# EAGLE library part AXP209 (library X-Powers)
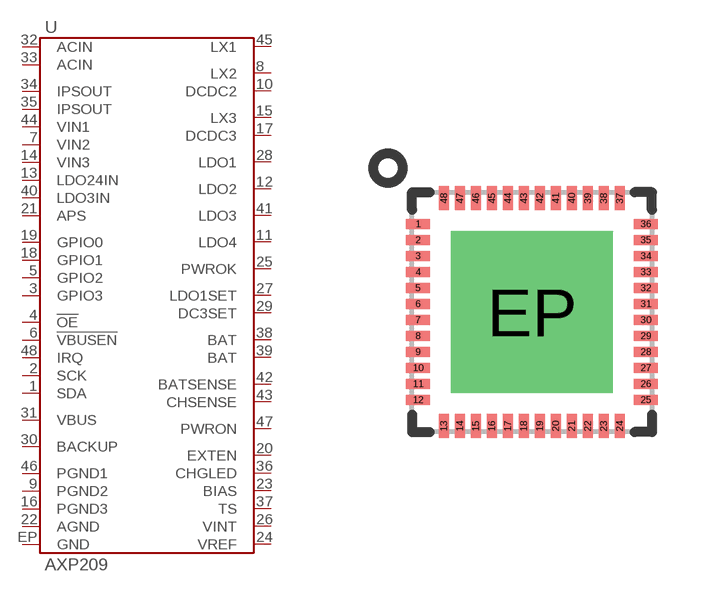
[diagram p0: symbol with the pads of QFN-48; footprint QFN-48]

Designator prefix U

## AXP209  [QFN-48]
1  SDA
2  SCK
3  GPIO3
4  !OE
5  GPIO2
6  !VBUSEN
7  VIN2
8  LX2
9  PGND2
10  DCDC2
11  LDO4
12  LDO2
13  LDO24IN
14  VIN3
15  LX3
16  PGND3
17  DCDC3
18  GPIO1
19  GPIO0
20  EXTEN
21  APS
22  AGND
23  BIAS
24  VREF
25  PWROK
26  VINT
27  LDO1SET
28  LDO1
29  DC3SET
30  BACKUP
31  VBUS
32  ACIN
33  ACIN
34  IPSOUT
35  IPSOUT
36  CHGLED
37  TS
38  BAT
39  BAT
40  LDO3IN
41  LDO3
42  BATSENSE
43  CHSENSE
44  VIN1
45  LX1
46  PGND1
47  PWRON
48  IRQ
EP  GND

## Footprint QFN-48 (pad centres in mm)
smd 0.6 x 0.248: 1 -2.85,2.2; 2 -2.85,1.8; 3 -2.85,1.4; 4 -2.85,1; 5 -2.85,0.6; 6 -2.85,0.2; 7 -2.85,-0.2; 8 -2.85,-0.6; 9 -2.85,-1; 10 -2.85,-1.4; 11 -2.85,-1.8; 12 -2.85,-2.2; 25 2.85,-2.2; 26 2.85,-1.8; 27 2.85,-1.4; 28 2.85,-1; 29 2.85,-0.6; 30 2.85,-0.2; 31 2.85,0.2; 32 2.85,0.6; 33 2.85,1; 34 2.85,1.4; 35 2.85,1.8; 36 2.85,2.2
smd 0.248 x 0.6: 13 -2.2,-2.85; 14 -1.8,-2.85; 15 -1.4,-2.85; 16 -1,-2.85; 17 -0.6,-2.85; 18 -0.2,-2.85; 19 0.2,-2.85; 20 0.6,-2.85; 21 1,-2.85; 22 1.4,-2.85; 23 1.8,-2.85; 24 2.2,-2.85; 37 2.2,2.85; 38 1.8,2.85; 39 1.4,2.85; 40 1,2.85; 41 0.6,2.85; 42 0.2,2.85; 43 -0.2,2.85; 44 -0.6,2.85; 45 -1,2.85; 46 -1.4,2.85; 47 -1.8,2.85; 48 -2.2,2.85
drill 1.5 pad 4.05 square: EP 0,0